# EAGLE library part DIY164 (library machine_science2)
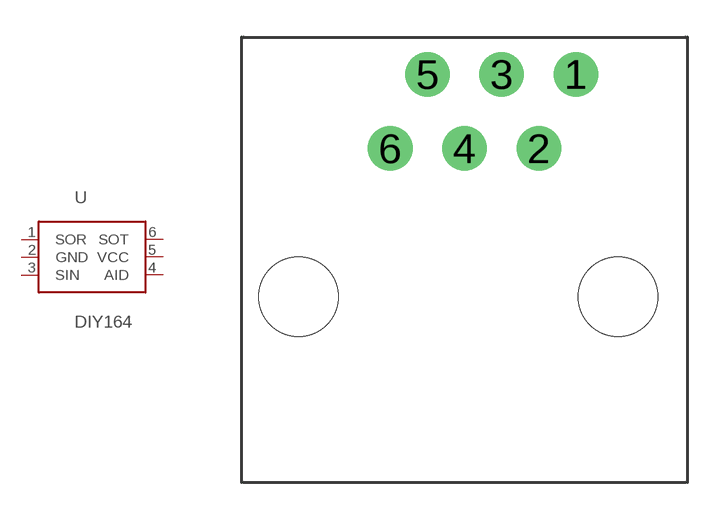
[diagram p5: symbol with the pads of DY164; footprint DY164]

Designator prefix -

## DIY164  [DY164]
1  SOR
2  GND
3  SIN
4  AID
5  VCC
6  SOT

## Footprint DY164 (pad centres in mm)
drill 1.2 round: 1 4.5,3; 2 3,0; 3 1.5,3; 4 0,0; 5 -1.5,3; 6 -3,0
hole 3.2 at 6.2,-6
hole 3.2 at -6.7,-6